# Altium schematic symbol library MyLibrary.SchLib: 320 symbols (part 7 of 7)
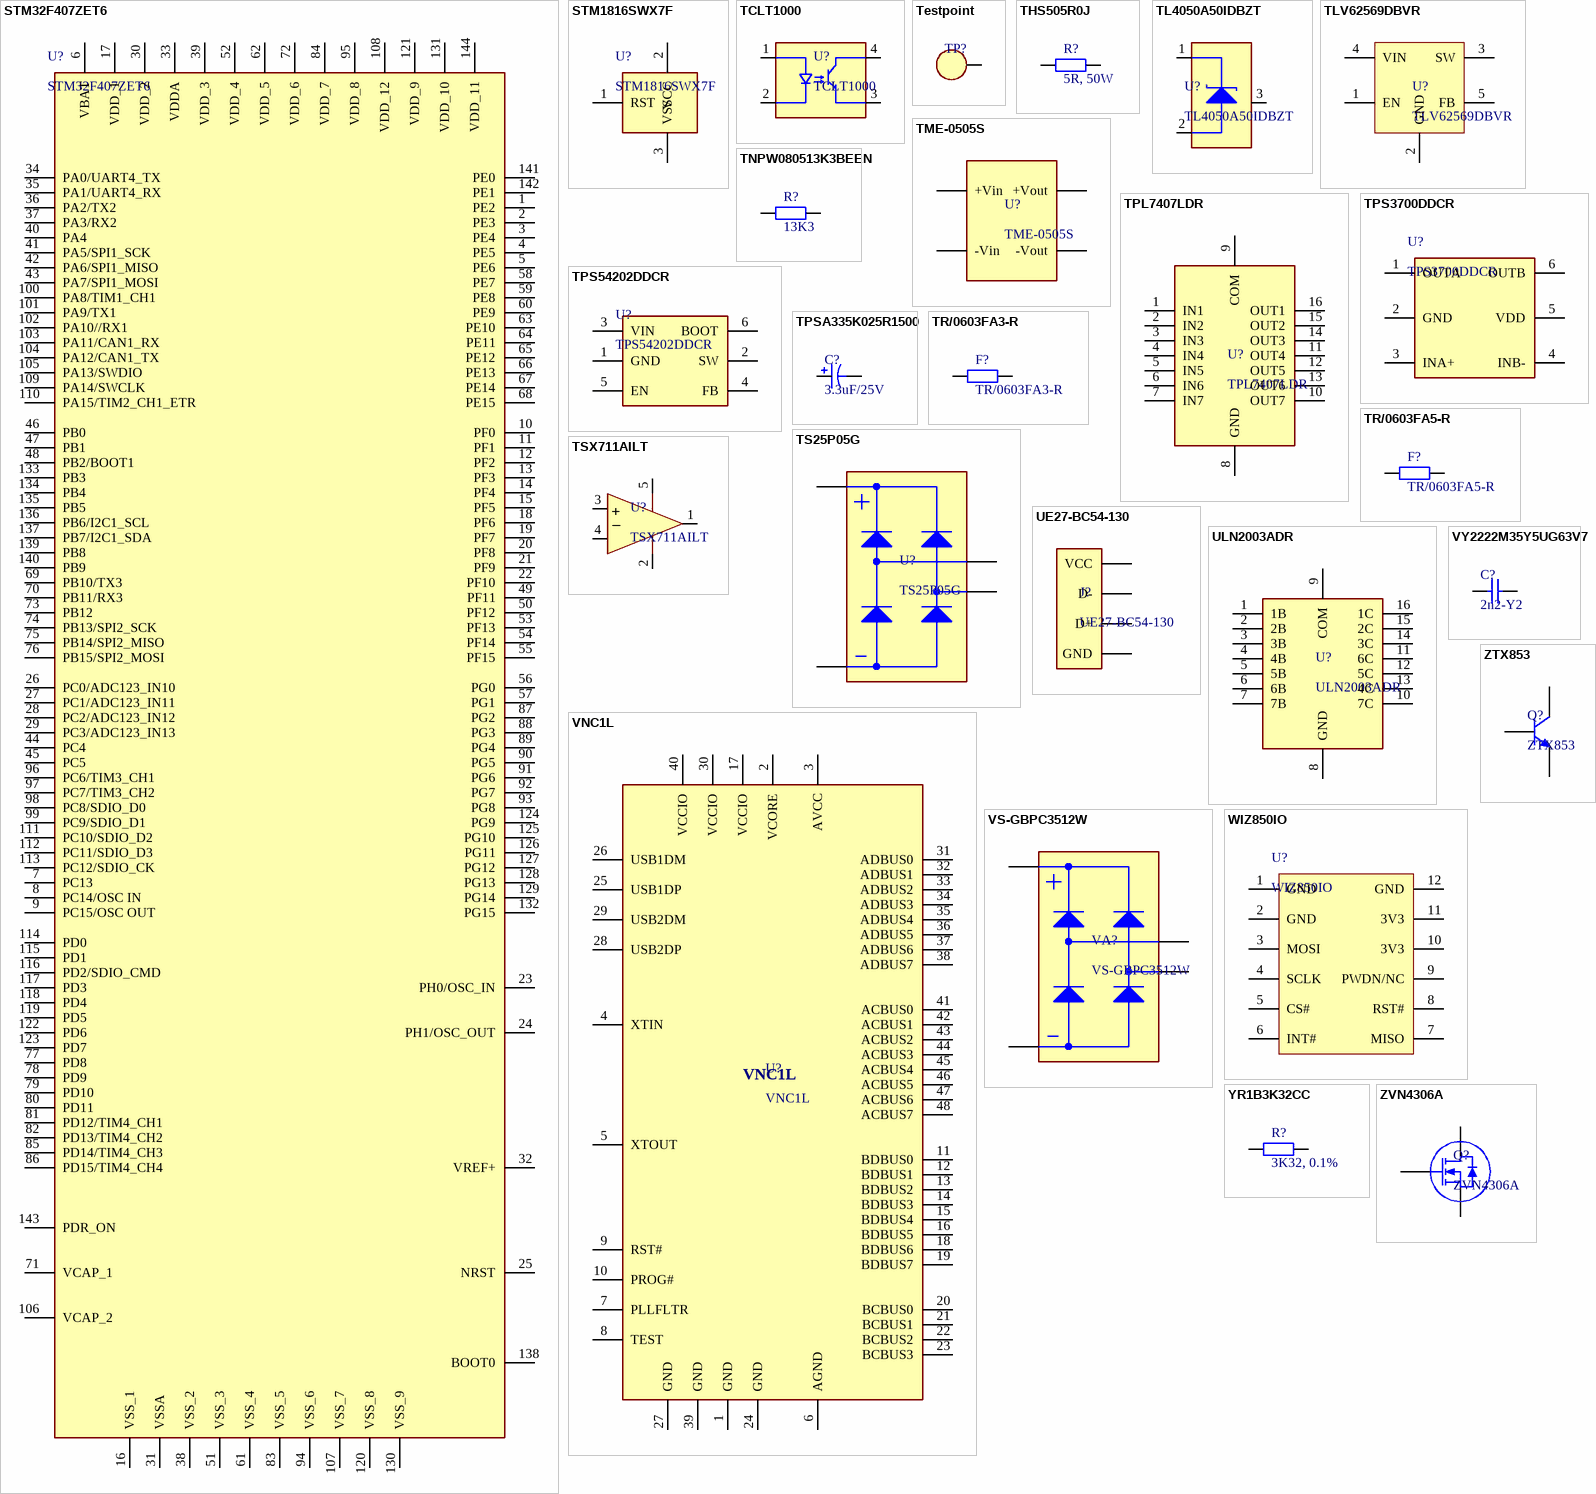
[diagram p14: symbols STM32F407ZET6 to ZVN4306A]

## STM32F407ZET6
designator U?
MCU STM32F407ZET6 ARM 32BIT LQFP144; Manufacturer: STMicroelectronics; Number of Timers/Counters: 14; Frequency: 168MHz; RAM Size: 192KB; Number of I/Os: 114; Max Supply Voltage: 3.6V; Min Supply Voltage: 1.8V; Memory Type: FLASH; Memory Size: 512KB; Interface: I2C,SPI,USB,CAN,Ethernet,I2S,IrDA,UART,USART,LIN,EBI/EMI; Data Bus Width: 32b; Oscillator Type: Internal; Number of USB Channels: 2; Number of ADC Channels: 24; Number of SPI Channels: 3; Number of Ethernet Channels: 1; Watchdog Timer: Yes; Peripherals: Brown-out Detect/Reset,POR,PWM,WDT,DMA,LCD,I2C; Supplier 1: Mouser; Manufacturer Part Number: STM32F407ZET6; Stock 1: 1155; Pricing 1: 1=11.06, 10=10.17, 50=9.75, 100=8.59, 1000=7.01, 10000=7.01 (USD); Package: QFP50P2200X2200X160-144N; Number of Pins: 144; Min Operating Temperature: -40°C; Max Operating Temperature: 85°C; Package Quantity: 60; Packaging: Tray; Max Frequency: 168MHz; Core Architecture: ARM; Number of Programmable I/O: 114; Number of I2C Channels: 3; Number of UART Channels: 2; Length: 20.2mm; Height: 1.45mm; Width: 20.2mm; Radiation Hardening: No; REACH SVHC: No SVHC; Lead Free: Lead Free; ComponentLink1URL: https://datasheet.ciiva.com/16378/dm00037051-16378957.pdf; ComponentLink1Description: Datasheet; Supplier Part Number 1: 511-STM32F407ZET6; Type: FINE-PITCH
footprint LQFP144 (TSQFP, 144-Leads, Body 19.90x19.90mm, Pitch 0.50mm, IPC Medium Density)
pins: 1 PE2, 2 PE3, 3 PE4, 4 PE5, 5 PE6, 6 VBAT, 7 PC13, 8 PC14/OSC IN, 9 PC15/OSC OUT, 10 PF0, 11 PF1, 12 PF2, 13 PF3, 14 PF4, 15 PF5, 16 VSS_1, 17 VDD_1, 18 PF6, 19 PF7, 20 PF8, 21 PF9, 22 PF10, 23 PH0/OSC_IN, 24 PH1/OSC_OUT, 25 NRST, 26 PC0/ADC123_IN10, 27 PC1/ADC123_IN11, 28 PC2/ADC123_IN12, 29 PC3/ADC123_IN13, 30 VDD_2, 31 VSSA, 32 VREF+, 33 VDDA, 34 PA0/UART4_TX, 35 PA1/UART4_RX, 36 PA2/TX2, 37 PA3/RX2, 38 VSS_2, 39 VDD_3, 40 PA4, 41 PA5/SPI1_SCK, 42 PA6/SPI1_MISO, 43 PA7/SPI1_MOSI, 44 PC4, 45 PC5, 46 PB0, 47 PB1, 48 PB2/BOOT1, 49 PF11, 50 PF12, 51 VSS_3, 52 VDD_4, 53 PF13, 54 PF14, 55 PF15, 56 PG0, 57 PG1, 58 PE7, 59 PE8, 60 PE9, 61 VSS_4, 62 VDD_5, 63 PE10, 64 PE11, 65 PE12, 66 PE13, 67 PE14, 68 PE15, 69 PB10/TX3, 70 PB11/RX3, 71 VCAP_1, 72 VDD_6, 73 PB12, 74 PB13/SPI2_SCK, 75 PB14/SPI2_MISO, 76 PB15/SPI2_MOSI, 77 PD8, 78 PD9, 79 PD10, 80 PD11, 81 PD12/TIM4_CH1, 82 PD13/TIM4_CH2, 83 VSS_5, 84 VDD_7, 85 PD14/TIM4_CH3, 86 PD15/TIM4_CH4, 87 PG2, 88 PG3, 89 PG4, 90 PG5, 91 PG6, 92 PG7, 93 PG8, 94 VSS_6, 95 VDD_8, 96 PC6/TIM3_CH1, 97 PC7/TIM3_CH2, 98 PC8/SDIO_D0, 99 PC9/SDIO_D1, 100 PA8/TIM1_CH1, 101 PA9/TX1, 102 PA10//RX1, 103 PA11/CAN1_RX, 104 PA12/CAN1_TX, 105 PA13/SWDIO, 106 VCAP_2, 107 VSS_7, 108 VDD_12, 109 PA14/SWCLK, 110 PA15/TIM2_CH1_ETR, 111 PC10/SDIO_D2, 112 PC11/SDIO_D3, 113 PC12/SDIO_CK, 114 PD0, 115 PD1, 116 PD2/SDIO_CMD, 117 PD3, 118 PD4, 119 PD5, 120 VSS_8, 121 VDD_9, 122 PD6, 123 PD7, 124 PG9, 125 PG10, 126 PG11, 127 PG12, 128 PG13, 129 PG14, 130 VSS_9, 131 VDD_10, 132 PG15, 133 PB3, 134 PB4, 135 PB5, 136 PB6/I2C1_SCL, 137 PB7/I2C1_SDA, 138 BOOT0, 139 PB8, 140 PB9, 141 PE0, 142 PE1, 143 PDR_ON, 144 VDD_11

## STM1816SWX7F
designator U?
IC MCU RESET CIRCUIT 2.88V SOT23; Manufacturer: STMicroelectronics; Max Power Dissipation: 320mW; Min Supply Voltage: 1.2V; Max Supply Voltage: 5.5V; Max Supply Current: 16uA; Watchdog Timer: No; Min Reset Threshold Voltage: 2.8V; Max Reset Threshold Voltage: 2.97V; Max Output Current: 20mA; Number of Voltages Monitored: 1; Reset: Active Low; Reset Timeout: 100ms; Operating Supply Current: 4uA; Supplier 1: Mouser; Manufacturer Part Number: STM1816SWX7F; Stock 1: 1351; Pricing 1: 1=0.66, 10=0.546, 50=0.546, 100=0.352, 1000=0.282, 10000=0.229 (USD); Mount: Surface Mount; Package: SOT95P245X110-3N; Number of Pins: 3; Min Operating Temperature: -40°C; Max Operating Temperature: 105°C; Package Quantity: 3000; Packaging: Tape and Reel; Nominal Supply Current: 16uA; Type: SMD; Threshold Voltage: 2.88V; Overvoltage Threshold: 2.97V; Undervoltage Threshold: 2.8V; Number of Elements: 1; Power Dissipation: 320mW; Termination: SMD/SMT; Length: 3.04mm; Height: 1.02mm; Width: 1.4mm; Radiation Hardening: No; REACH SVHC: No SVHC; Lead Free: Lead Free; ComponentLink1URL: https://datasheet.ciiva.com/27052/1405034-27052192.pdf; ComponentLink1Description: Datasheet; Supplier Part Number 1: 511-STM1816SWX7F
footprint SOT23_123 (SOT23, 3-Leads, Body 2,92x2,51mm, Pitch 0,95mm, IPC Medium Density)
pins: 1 RST, 2 VCC, 3 VSS

## TCLT1000
designator U?
OPTOISOLATOR 5KV SOP4; Manufacturer: Vishay Semiconductor Opto Division; Number of Channels: 1; Voltage - Isolation: 5000Vrms; Current Transfer Ratio (Min): 50% @ 5mA; Current Transfer Ratio (Max): 600% @ 5mA; Turn On / Turn Off Time (Typ): 6µs, 5µs; Rise / Fall Time (Typ): 3µs, 4.7µs; Input Type: DC; Output Type: Transistor; Voltage - Output (Max): 70V; Current - Output / Channel: 50mA; Voltage - Forward (Vf) (Typ): 1.25V; Current - DC Forward (If) (Max): 60mA; Vce Saturation (Max): 300mV; Resistance (Ohms): 5k; Tolerance: ±1%; Power (Watts): 25W; Temperature Coefficient: -20/ +80ppm/°C; Manufacturer Part Number: TCLT1000; RoHS: RoHS Compliant; Category: Isolators; Packaging: Tape & Reel (TR); Part Status: Active; Operating Temperature: -55°C ~ 100°C; Mounting Type: Surface Mount; Package: SOP2541020X230-4N; Supplier Device Package: 4-SOP (2.54mm); ComponentLink1URL: http://www.vishay.com/docs/83515/tclt1000.pdf; ComponentLink1Description: Datasheet; Composition: Thick Film; Features: Moisture Resistant, Non-Inductive; Size / Dimension: 0.410" L x 0.125" W (10.41mm x 3.18mm); Height - Seated (Max): 0.650" (16.52mm); Failure Rate: -; Type: SMD; Supplier 1: RSComponents; Supplier Part Number 1: 6998284P
footprint SOP4L
pins: 1 A1, 2 C1, 3 E, 4 C

## Testpoint
designator TP?, comment -  (value not drawn)  (no BOM)
Testpoint 0.8mm X 1.5mm; .PCBChecked: BP; .SCHChecked: BP
footprint TESTPOINT_0.8X1.5
pins: 1

## THS505R0J
designator R?, comment 5R, 50W
RES 5R 50W; Manufacturer: TE Connectivity; Manufacturer Part Number: THS505R0J; Tolerance: 5%; Voltage Rating: 1.25kV; Temperature Coefficient: 50ppm/°C; Lead/Base Style: Fixed; Insulation Resistance: 10GR; Number of Resistors: 1; Lead Length: 10mm; Supplier 1: Digi-Key; Stock 1: 0; Mount: Chassis Mount; Min Operating Temperature: -55°C; Max Operating Temperature: 275°C; Power Rating: 50W; Resistance: 5R; Composition: Power resistor,Wirewound; Packaging: Tray; Package Quantity: 100; Termination: Solder; Number of Terminations: 2; Length: 51mm; Height: 17mm; Width: 30mm; REACH SVHC: Unknown; ELV: Compliant; ComponentLink2URL: http://datasheet.octopart.com/THS505R0J-TE-Connectivity-datasheet-5323629.pdf; ComponentLink2Description: Datasheet; ComponentLink3URL: http://sigma.octopart.com/13533197/technical_drawing/TE-Connectivity-THS505R0J.pdf; ComponentLink3Description: Drawing; Type: THT; Supplier Part Number 1: THS505R0J-ND
footprint THS505R
pins: 1, 2

## TL4050A50IDBZT
designator U?
REF 5V SMD SOT233; Manufacturer: Texas Instruments; Tolerance: 0.1%; Number of Channels: 1; Max Output Current: 15mA; Temperature Coefficient: 30ppm/°C; Cathode Current: 80uA; Reference Type: Shunt; Supplier 1: Digi-Key; Manufacturer Part Number: TL4050A50IDBZT; Stock 1: 532; Pricing 1: 1=2.5, 10=2.246, 100=1.8056 (USD); Mount: Surface Mount; Case/Package: SOT-23; Number of Pins: 3; Min Operating Temperature: -40°C; Max Operating Temperature: 125°C; Packaging: Tape and Reel; Package Quantity: 1; Output Voltage: 5V; Output Current: 15mA; Min Output Voltage: 5V; Reference Voltage: 5V; Max Output Voltage: 5V; Termination: SMD/SMT; Radiation Hardening: No; Lead Free: Lead Free; REACH SVHC: No SVHC; ComponentLink1URL: https://datasheet.ciiva.com/15148/getdatasheetpartid-127314-15148679.pdf; ComponentLink1Description: Datasheet; Supplier Part Number 1: 296-32346-1-ND; Package: SOT95P245X110-3N; Type: SMD
footprint SOT23_123 (SOT23, 3-Leads, Body 2,92x2,51mm, Pitch 0,95mm, IPC Medium Density)
pins: 1, 2, 3

## TLV62569DBVR
designator U?
IC REG BUCK ADJ 2A SOT23-5; Manufacturer: Texas Instruments; Supplier 1: Mouser; Manufacturer Part Number: TLV62569DBVR; Stock 1: 3906; Pricing 1: 1=1.27000, 10=1.08000, 50=1.08000, 100=0.83300, 500=0.73600, 1000=0.58100, 3000=0.51500, 9000=0.49600, 10000=0.49600, 24000=0.48000, 45000=0.46500 (USD); RoHS: No; Case/Package: SOT-23-5; Min Operating Temperature: -40°C; Max Operating Temperature: 125°C; ComponentLink1URL: http://www.ti.com/lit/ds/symlink/tlv62569.pdf?src-supplier=Farnell; ComponentLink1Description: Datasheet; Supplier Part Number 1: 595-TLV62569DBVR; Type: SMD; Package: SOT95P245X110-5N
footprint SOT23-5 (SOT23, 5-Leads, Body 2.90x2.80mm, Pitch 0.95mm, IPC Medium Density)
pins: 1 EN, 2 GND, 3 SW, 4 VIN, 5 FB

## TME-0505S
designator U?
DC/DC 5V 5V SIP4 1W; Manufacturer: Traco Power; Number of Outputs: 1; Max Output Current: 200mA; Efficiency: 70%; Min Input Voltage: 4.5V; Max Input Voltage: 5.5V; Isolation Voltage: 1kV; Isolation: Isolated; Supplier 1: Distrelec; Manufacturer Part Number: TME-0505S; Stock 1: 1014; Pricing 1: 1=3.68, 10=3.54, 25=3.4 (EUR); Mount: Through Hole; Case/Package: SIP; Number of Pins: 4; Weight: 1.3g; Min Operating Temperature: -40°C; Max Operating Temperature: 85°C; Nominal Output Voltage: 5V; Output Current: 200mA; Output Voltage: 5V; Power Rating: 1W; Operating Supply Voltage: 5V; Nominal Input Voltage: 5V; Output Power: 1W; Min Input Voltage (DC): 4.5V; Max Input Voltage (DC): 5.5V; Max Output Power: 1W; Voltage - Output 1: 5V; Current - Output 1: 200mA; Length: 11.5mm; Height: 10.2mm; Width: 6.1mm; Depth: 6mm; Radiation Hardening: No; REACH SVHC: No SVHC; Flammability Rating: UL94 V-0; ComponentLink1URL: https://datasheet.ciiva.com/11837/0900766b80e182ef-11837284.pdf; ComponentLink1Description: Datasheet; Supplier Part Number 1: 169-56-007; Package: SIP4; Type: THT
footprint SIP4
pins: +Vin, +Vout, -Vin, -Vout

## TNPW080513K3BEEN
designator R?, comment 13K3
RES 13K3 0805 0.125W 0.1%; Manufacturer: Vishay Dale; Manufacturer Part Number: TNPW080513K3BEEN; Resistance: 13.3kR; Power Rating: 125mW; Voltage Rating: 150V; Temperature Coefficient: 25ppm/°C; Voltage Rating (DC): 100V; Supplier 1: Mouser; RoHS: Yes; Stock 1: 757; Pricing 1: 1 = 0.94000, 10 = 0.94000, 50 = 0.75800, 100 = 0.59800, 1000 = 0.38400, 10000 = 0.38400 (USD); Mount: Surface Mount; Case/Package: 0805; Case Code (Metric): 2012; Case Code (Imperial): 0805; Contact Plating: Tin; Min Operating Temperature: -55°C; Max Operating Temperature: 125°C; Tolerance: 0.1%; Packaging: Tape and Reel; Package Quantity: 1000; Composition: Thin Film; Number of Terminations: 2; Termination: SMD/SMT; Military Standard: Not; Max Power Dissipation: 125mW; Features: Moisture Resistant; Length: 2mm; Height: 0.022inch; Width: 0.049inch; Depth: 1.25mm; Radiation Hardening: No; ComponentLink1URL: https://datasheet.ciiva.com/48526/tnpw-e3-48526534.pdf?src-supplier=Avnet; ComponentLink1Description: Datasheet; Supplier Part Number 1: 71-TNPW080513K3BEEN; Type: SMD; Package: RESC2012X60N
footprint R0805
footprint RESC2012X05N (Chip Resistor, 2-Leads, Body 2.05x1.25mm, IPC Medium Density)
pins: 1, 2

## TPL7407LDR
designator U?
IC POWER RELAY N-CHAN 16SOIC; Manufacturer: Texas Instruments; Switch Type: Relay, Solenoid Driver; Number of Outputs: 7; Ratio - Input:Output: 1:1; Output Configuration: Low Side; Output Type: N-Channel; Interface: Parallel; Voltage - Load: 40V (Max); Voltage - Supply (Vcc/Vdd): 1.8 V ~ 5.5 V; Current - Output (Max): 500mA; Input Type: Inverting; Manufacturer Part Number: TPL7407LDR; RoHS: RoHS Compliant; Category: Integrated Circuits (ICs); Packaging: Cut Tape (CT); Part Status: Active; Rds On (Typ): -; Features: -; Fault Protection: -; Operating Temperature: -40°C ~ 125°C (TA); Package: SOIC127P600X175-16N; Supplier Device Package: 16-SOIC; ComponentLink1URL: http://www.ti.com/lit/ds/symlink/tpl7407l.pdf; ComponentLink1Description: Datasheet; Supplier 1: Farnell; Supplier Part Number 1: 2400932; Type: SMD
footprint SOIC16 (SOIC16, 5.40mm width)
pins: 1 IN1, 2 IN2, 3 IN3, 4 IN4, 5 IN5, 6 IN6, 7 IN7, 8 GND, 9 COM, 10 OUT7 (oc), 11 OUT4 (oc), 12 OUT5 (oc), 13 OUT6 (oc), 14 OUT3 (oc), 15 OUT2 (oc), 16 OUT1 (oc)

## TPS3700DDCR
designator U?
IC COMPARATOR Dual 18V 6-Pin TSOT-23 T/R; Manufacturer: Texas Instruments; Min Supply Voltage: 1.8V; Number of Elements: 2; Quiescent Current: 11uA; Propagation Delay: 29us; Hysteresis: 5.5mV; Number of Channels: 1; Nominal Supply Current: 7uA; Undervoltage Threshold: 1.7V; Operating Supply Current: 5.5uA; Watchdog Timer: No; Supplier 1: Mouser; Manufacturer Part Number: TPS3700DDCR; RoHS: Yes; Stock 1: 20421; Pricing 1: 1 = 1.79000, 10 = 1.52000, 50 = 1.52000, 100 = 1.22000, 1000 = 0.88100, 10000 = 0.75900 (USD); Mount: Surface Mount; Case/Package: SOT; Number of Pins: 6; Min Operating Temperature: -40°C; Max Operating Temperature: 125°C; Packaging: Tape and Reel; Max Supply Voltage: 18V; Package Quantity: 3000; Number of Voltages Monitored: 2; Radiation Hardening: No; Lead Free: Lead Free; REACH SVHC: No SVHC; ComponentLink1URL: https://datasheet.ciiva.com/15106/getdatasheetpartid-496993-15106246.pdf?src-supplier=Verical; ComponentLink1Description: Datasheet; Supplier Part Number 1: 595-TPS3700DDCR; Package: SOT95P245X110-6N; Type: SMD
footprint SOT23-6 (SOT23, 6-Leads, Body 2.90x2.80mm, Pitch 0.95mm, IPC Medium Density)
pins: 1 OUTA, 2 GND, 3 INA+, 4 INB-, 5 VDD, 6 OUTB

## TPS54202DDCR
designator U?
IC REG BUCK ADJ 2A SYNC SOT23-6; Manufacturer: Texas Instruments; Number of Outputs: 1; Min Input Voltage: 4.5V; Max Input Voltage: 28V; Min Output Voltage: 596mV; Switching Frequency: 500kHz; Synchronous Rectifier: Yes; Quiescent Current: 40uA; Output Type: Adjustable; Output Configuration: Positive; Supplier 1: Mouser; Manufacturer Part Number: TPS54202DDCR; RoHS: Yes; Stock 1: 34946; Pricing 1: 1 = 1.68000, 10 = 1.43000, 50 = 1.43000, 100 = 1.15000, 1000 = 0.83000, 10000 = 0.71500 (USD); Mount: Surface Mount; Case/Package: SOT-23-6; Min Operating Temperature: -40°C; Max Operating Temperature: 125°C; Packaging: Tape and Reel; Max Output Voltage: 28V; Output Current: 2A; Lead Free: Lead Free; ComponentLink1URL: http://www.ti.com/lit/ds/symlink/tps54202.pdf?src-supplier=Digi-Key; ComponentLink1Description: Datasheet; Supplier Part Number 1: 595-TPS54202DDCR; Type: SMD; Package: SOT95P245X110-6N
footprint SOT23-6 (SOT23, 6-Leads, Body 2.90x2.80mm, Pitch 0.95mm, IPC Medium Density)
pins: 1 GND, 2 SW, 3 VIN, 4 FB, 5 EN, 6 BOOT

## TPSA335K025R1500
designator C?, comment 3.3uF/25V
CAP 3.3uF 25V SMD 1206 (3216) 1.5 Ohm 125C T/R; Manufacturer: Kyocera AVX; Manufacturer Part Number: TPSA335K025R1500; Dielectric Material: Tantalum; Tolerance: 10%; ESR (Equivalent Series Resistance): 1.5R; Polarity: Polar; Leakage Current: 800nA; Dissipation Factor: 6%; Supplier 1: Farnell; Stock 1: 55152; Pricing 1: 5=0.61, 50=0.309, 250=0.284, 500=0.244, 1000=0.21, 2000=0.172, 10000=0.163, 20000=0.161 (EUR); Mount: Surface Mount; Case/Package: 1206; Number of Pins: 2; Case Code (Metric): 3216; Case Code (Imperial): 1206; Min Operating Temperature: -55°C; Max Operating Temperature: 125°C; Capacitance: 3.3uF; Voltage Rating: 25V; Packaging: Tape and Reel; Package Quantity: 2000; Termination: SMD/SMT; Voltage: 25V; Voltage Rating (DC): 25V; Length: 3.2mm; Height: 1.6mm; Width: 0.063inch; Height - Seated (Max): 0.071inch; Depth: 1.6mm; Radiation Hardening: No; REACH SVHC: No SVHC; Lead Free: Lead Free; ComponentLink1URL: https://datasheet.ciiva.com/11794/0900766b80df8ba2-11794153.pdf; ComponentLink1Description: Datasheet; Supplier Part Number 1: 1658494; Type: SMD; Package: CAPC3216X100N
footprint C1206_POL
pins: 1, 2

## TR/0603FA3-R
designator F?
FUSE 32V 3A FAST ACTING SMD; Manufacturer: Eaton Bussmann; Resistance: 28mR; Fuse Type: Board Mount (Cartridge Style Excluded); Supplier 1: Mouser; Manufacturer Part Number: TR/0603FA3-R; RoHS: Yes; Stock 1: 2056; Pricing 1: 1 = 0.87000, 10 = 0.68400, 50 = 0.68400, 100 = 0.56800, 250 = 0.51700, 500 = 0.43800, 1000 = 0.36900, 2500 = 0.34400, 5000 = 0.33200, 10000 = 0.32000 (USD); Mount: Surface Mount; Case/Package: SMD/SMT; Number of Pins: 2; Weight: 0.016oz; Housing Material: Ceramic; Current Rating: 3A; Voltage Rating (AC): 32V; Voltage Rating (DC): 32V; Packaging: Tape and Reel; Package Quantity: 5000; Max Voltage Rating (AC): 32V; Max Voltage Rating (DC): 32V; Working Voltage: 32V; Length: 1.6mm; Height: 0.48mm; Width: 0.81mm; Depth: 0.81mm; Radiation Hardening: No; Lead Free: Lead Free; ComponentLink2URL: http://www.mouser.com/ds/2/87/Bus_Elx_DS_4336_0603FA_Series-335921.pdf?src-supplier=Mouser; ComponentLink2Description: Datasheet; Supplier Part Number 1: 504-TR/0603FA3-R; Type: SMD; Package: FUSE1608X45N
footprint FUSE0603
pins: 1, 2

## TR/0603FA5-R
designator F?
FUSE 32V 5A FAST ACTING; Manufacturer: Eaton Bussmann; Body Material: Metal; Resistance: 11mR; Fuse Type: Board Mount (Cartridge Style Excluded); Approvals: UL; Type: SMD; Supplier 1: Mouser; Manufacturer Part Number: TR/0603FA5-R; RoHS: Yes; Stock 1: 8504; Pricing 1: 1 = 0.69000, 10 = 0.56900, 50 = 0.56900, 100 = 0.47200, 250 = 0.42900, 500 = 0.36500, 1000 = 0.32200, 2500 = 0.29600, 10000 = 0.29600 (USD); Mount: Surface Mount; Case/Package: 0603; Number of Pins: 2; Weight: 0.016oz; Case Code (Metric): 1608; Case Code (Imperial): 0603; Housing Material: Ceramic; Min Operating Temperature: -55°C; Max Operating Temperature: 125°C; Current Rating: 5A; Voltage Rating (AC): 32V; Voltage Rating (DC): 32V; Packaging: Tape and Reel; Package Quantity: 1; Max Voltage Rating (AC): 32V; Max Voltage Rating (DC): 32V; DC Cold Resistance: 11mR; Fuse Current: 5A; Length: 1.6mm; Height: 0.019inch; Width: 0.032inch; Depth: 0.81mm; Radiation Hardening: No; REACH SVHC: No SVHC; Lead Free: Lead Free; ComponentLink1URL: https://datasheet.ciiva.com/48480/bus-elx-ds-4336-0603fa-series-48480821.pdf?src-supplier=Avnet; ComponentLink1Description: Datasheet; Supplier Part Number 1: 504-TR/0603FA5-R; Package: FUSE1608X45N
footprint FUSE0603
pins: 1, 2

## TS25P05G
designator U?
BRIDGE RECTIFIER 600V 25A SIL; Manufacturer: Taiwan Semiconductor; Max Surge Current: 300A; Max Reverse Leakage Current: 10uA; Supplier 1: Mouser; Manufacturer Part Number: TS25P05G; Stock 1: 0; RoHS: Yes; Case/Package: SIL; Number of Pins: 4; Min Operating Temperature: -55°C; Max Operating Temperature: 150°C; Packaging: Rail/Tube; Package Quantity: 1200; Length: 30.3mm; Height: 20.3mm; Width: 4.8mm; ComponentLink1URL: https://datasheet.ciiva.com/14152/ts25p01g-7g-eng-tds-14152307.pdf?src-supplier=Distrelec; ComponentLink1Description: Datasheet; Supplier Part Number 1: 821-TS25P05G; Type: THT
footprint SIL4
pins: 1 V-, 2 AC1, 3 AC2, 4 V+

## TSX711AILT
designator U?
INA; Manufacturer: STMicroelectronics; Amplifier Type: General Purpose; Number of Circuits: 1; Output Type: Rail-to-Rail; Slew Rate: 1.4 V/µs; Gain Bandwidth Product: 2.7MHz; Current - Input Bias: 1pA; Voltage - Input Offset: 200µV; Current - Supply: 660µA; Current - Output / Channel: 71mA; Voltage - Supply, Single/Dual (±): 2.7 V ~ 16 V; Supplier 1: Mouser; Manufacturer Part Number: TSX711AILT; Stock 1: 0; Pricing 1: 3000=0.602 (USD); Category: Integrated Circuits (ICs); Family: Linear - Amplifiers - Instrumentation, OP Amps, Buffer Amps; Series: -; Packaging: Tape & Reel (TR); -3db Bandwidth: -; Operating Temperature: -40°C ~ 125°C; Mounting Type: Surface Mount; Package: STO95P300X130N; Supplier Device Package: SOT-23-5; ComponentLink1URL: http://www.farnell.com/datasheets/1905401.pdf; ComponentLink1Description: Datasheet; Supplier Part Number 1: 511-TSX711AILT; Type: SMD
footprint SOT23-5 (SOT23, 5-Leads, Body 2.90x2.80mm, Pitch 0.95mm, IPC Medium Density)
pins: 1 REF, 2, 3 +IN, 4 -VCC, 5 SENSE
text: +; _

## UE27-BC54-130
designator J?
USB Connectors 4P PCB R/A TYPE B BLACK W/ REAR SHIELD; Manufacturer: Amphenol Commercial; Gender: Receptacle; Number of Contacts: 4; Number of Ports: 1; Insulation Resistance: 1GR; Pitch: 2.5mm; Supplier 1: Mouser; Manufacturer Part Number: UE27-BC54-130; RoHS: Yes; Stock 1: 2902; Pricing 1: 1 = 0.63000, 10 = 0.59400, 50 = 0.47600, 100 = 0.45600, 1000 = 0.32700, 10000 = 0.29700 (USD); Mount: Horizontal,Through Hole; Color: Black; Contact Material: Bronze; Contact Plating: Gold; Number of Terminals: 4; Housing Material: Polybutylene; Packaging: Bulk; Package Quantity: 3000; Connector Type: USB; Termination: Solder; Orientation: Right Angle; Length: 12.04mm; Depth: 16.3mm; Radiation Hardening: No; ComponentLink1URL: https://www.amphenolcanada.com/ProductSearch/drawings/AC/UE27BCX4XXX.pdf; ComponentLink1Description: Datasheet; Supplier Part Number 1: 523-UE27-BC54-130; Type: THT
footprint USB Receptacle
pins: 1 VCC, 2 D-, 3 D+, 4 GND

## ULN2003ADR
designator U?
IC PWR RELAY 7NPN 1:1 16SOIC; Manufacturer: Texas Instruments; Switch Type: Relay, Solenoid Driver; Number of Outputs: 7; Output Configuration: Low Side; Output Type: NPN; Interface: Parallel; Voltage - Load: 50V (Max); Voltage - Supply (Vcc/Vdd): Not Required; Current - Output (Max): 500mA; Input Type: Inverting; Supplier 1: Digi-Key; Manufacturer Part Number: ULN2003ADR; RoHS: RoHS Compliant; Category: Integrated Circuits (ICs); Stock 1: 30000; Pricing 1: 2500=0.1581, 5000=0.1479, 12500=0.1377 (USD); Packaging: Tape & Reel (TR); Part Status: Active; Ratio - Input:Output: 1:1; Rds On (Typ): -; Features: -; Fault Protection: -; Operating Temperature: -20°C ~ 70°C (TA); Package: SOIC127P600X175-16N; Supplier Device Package: 16-SOIC; ComponentLink1URL: http://www.ti.com/lit/ds/symlink/uln2003a.pdf; ComponentLink1Description: Datasheet; Supplier Part Number 1: 296-1368-2-ND; Type: SMD
footprint SOIC16 (SOIC16, 5.40mm width)
pins: 1 1B, 2 2B, 3 3B, 4 4B, 5 5B, 6 6B, 7 7B, 8 GND, 9 COM, 10 7C, 11 6C, 12 5C, 13 4C, 14 3C, 15 2C, 16 1C

## VNC1L
designator U?
IC FTDI EMBEDDED USB HOST CONTROLLER, 48LQFP; USB Type: Embedded Host Controller; USB Standard: USB 2.0; Supply Voltage Min: 3; Supply Voltage Max: 3.6; Interface Case Style: LQFP; No. of Pins: 48; Data Rate: 480; No. of Ports: 2 Port; SVHC: No SVHC (12-Jan-2017); Base Number: 1; Data Rate Max: 12; Device Marking: VNC1; Supply Voltage Range: 3V to 3.6; .PCBChecked: BP; Supplier 1: Farnell; Manufacturer: FTDI; Manufacturer Part Number: VNC1L; RoHS: YES; Pricing 1: 1=8.75, 25=7.83, 100=6.69, 500=5.58 (GBP); Operating Temperature Min: 0; Operating Temperature Max: 70; Packaging: Cut Tape; Product Range: -; MSL: -; Operating Temperature Range: 0°C to +70; Termination Type: Surface Mount Device<!--FANDB--><div class="features-and-benefits-container"><div class="features-and-benefits-description"><span class="features-benefits-value">The VNC1L is a first generation Vinculum family USB Host/Slave Controller IC, designed to deliver USB host level interfacing capabilities to embedded applications. The IC features two independent USB host/slave ports with an inbuilt 8/32-bit MCU processing core with 4kb RAM program memory and 64kb embedded flash memory for firmware storage. The IC supports UART, SPI slave and 8-bit parallel FIFO interfaces to enable communication with external processing devices. Further two USB ports on IC can be individually configured by firmware as host or slave ports. IC can be programmed with FTDI's in-house developed firmware which supports a range of common USB device classes, providing a cost effective, complete, ready-to-use USB interfacing solution. Users do not need to license any USB software stacks or develop USB drivers, indeed no knowledge of USB is required to use these devices. IC is ideal for implementing USB interfacing within existing applications which do not already have USB.</span></div><div class="features-and-benefits-list"><ul class="features-and-benefits-list-list"><li class="features-and-benefits-list-item">8/32-bit V-MCU core</li><li class="features-and-benefits-list-item">Dual DMA controllers for hardware acceleration</li><li class="features-and-benefits-list-item">64kb embedded flash program memory</li><li class="features-and-benefits-list-item">4kb internal data SRAM</li><li class="features-and-benefits-list-item">2 x USB 2.0 slow/full speed host/slave ports</li><li class="features-and-benefits-list-item">UART, SPI and parallel FIFO interfaces</li><li class="features-and-benefits-list-item">PS2 legacy keyboard and mouse interfaces</li><li class="features-and-benefits-list-item">Up to 28 GPIO pins depending on configuration</li><li class="features-and-benefits-list-item">3.3V operation with 5V safe inputs</li><li class="features-and-benefits-list-item">Low power operation (25mA running/2mA standby)</li><li class="features-and-benefits-list-item">Multi-processor configuration capable</li></ul></div><div class="features-and-benefits-footnotes"><span class="features-and-benefits-value">VNC1; ComponentLink1URL: http://www.farnell.com/datasheets/1508617.pdf; ComponentLink1Description: Datasheet; Supplier Part Number 1: 1329312RL; Category: Integrated Circuits (ICs); Package: QFP50P900X900X160-48N; Type: FINE-PITCH; .SCHChecked: BP
footprint LQFP48 (LQFP, 48-Leads, Body 7,00x7,00mm, Pitch 0,50mm, IPC Medium Density)
pins: 1 GND, 2 VCORE, 3 AVCC, 4 XTIN, 5 XTOUT, 6 AGND, 7 PLLFLTR, 8 TEST, 9 RST#, 10 PROG#, 11 BDBUS0, 12 BDBUS1, 13 BDBUS2, 14 BDBUS3, 15 BDBUS4, 16 BDBUS5, 17 VCCIO, 18 BDBUS6, 19 BDBUS7, 20 BCBUS0, 21 BCBUS1, 22 BCBUS2, 23 BCBUS3, 24 GND, 25 USB1DP, 26 USB1DM, 27 GND, 28 USB2DP, 29 USB2DM, 30 VCCIO, 31 ADBUS0, 32 ADBUS1, 33 ADBUS2, 34 ADBUS3, 35 ADBUS4, 36 ADBUS5, 37 ADBUS6, 38 ADBUS7, 39 GND, 40 VCCIO, 41 ACBUS0, 42 ACBUS1, 43 ACBUS2, 44 ACBUS3, 45 ACBUS4, 46 ACBUS5, 47 ACBUS6, 48 ACBUS7

## VS-GBPC3512W
designator VA?
BRIDGE RECTIFIER DIODE 1.2kV 35A 4 Pins; Manufacturer: Vishay I.R.; No. of Phases: Single; Forward Voltage VF Max: 1.1V; No. of Pins: 4Pins; SVHC: To Be Advised; Supplier 1: Digi-Key; Manufacturer Part Number: VS-GBPC3512W; Stock 1: 1278; Pricing 1: 1=6.53, 10=5.902, 25=5.6272, 100=4.8861, 250=4.6665, 500=4.2548, 1000=3.7058, 2500=3.66 (USD); Repetitive Reverse Voltage Vrrm Max: 1.2kV; Forward Current If(AV): 35A; Package: Module; Operating Temperature Max: 150°C; Packaging: Each; Product Range: -; ComponentLink1URL: https://datasheet.ciiva.com/14845/vs-gbpc25-14845420.pdf; ComponentLink1Description: Datasheet; Supplier Part Number 1: GBPC3512W-ND; Type: THT
footprint GBPC3512W
pins: AC1, AC2, V+, V-

## VY2222M35Y5UG63V7
designator C?, comment 2n2-Y2
CAP 2.2NF 300V RAD; Manufacturer: VISHAY; Manufacturer Part Number: VY2222M35Y5UG63V7; Capacitance: 2200; Product Range: VY2 Series; Capacitance Tolerance: ± 20%; Suppression Class: X1 / Y2; Voltage Rating X: 440; Voltage Rating Y: 300; Body Diameter: 9; Capacitor Application: Safety / Suppression; Capacitor Terminals: Radial Leaded; Dielectric Characteristic: Y5; External Depth: 5; External Length / Height: 43; Lead Diameter: 0.6; Lead Length: 30; Type: THT; Supplier 1: Mouser; RoHS: YES; Stock 1: 7910; Pricing 1: 10=0.277, 100=0.192, 500=0.139, 2500=0.103, 5000=0.102, 10000=0.101, 50000=0.0999, 100000=0.0988 (GBP); Packaging: Each; Operating Temperature Min: -40; Operating Temperature Max: 125; Capacitance Tolerance ±: ± 20%; External Width: 9; Lead Spacing: 7.5; Operating Temperature Range: -40°C to +125; Voltage Rating: 300; ComponentLink1URL: http://www.farnell.com/datasheets/2050153.pdf; ComponentLink1Description: Datasheet; Supplier Part Number 1: 72-VY2222M35Y5UG63V7; Package: Axial
footprint KONDENZ-5,08  12X4 D 1
pins: 1, 2 20

## WIZ850IO
designator U?
Ethernet Interface SPI 3V3; Manufacturer: WIZnet; Supplier 1: Mouser; Manufacturer Part Number: WIZ850IO; Stock 1: 62; Pricing 1: 1=21.98000, 10=20.33000, 50=18.13000, 100=17.37000, 1000=15.17000, 10000=15.17000 (USD); RoHS: No; Supplier Part Number 1: 950-WIZ850IO; Type: THT; ComponentLink1Description: Datasheet; ComponentLink1URL: https://cdn.sos.sk/productdata/43/24/8adad58a/wiz850io.pdf
footprint ETHERNET_MODULE
pins: 1 GND, 2 GND, 3 MOSI, 4 SCLK, 5 CS#, 6 INT#, 7 MISO, 8 RST#, 9 PWDN/NC, 10 3V3, 11 3V3, 12 GND

## YR1B3K32CC
designator R?, comment 3K32, 0.1%
RES 3K32 0.25W 0.1% AXIAL; Manufacturer: TE Connectivity; Manufacturer Part Number: YR1B3K32CC; Power Rating: 250mW; Voltage Rating: 250V; Resistance: 3.32kR; Temperature Coefficient: 15ppm/°C; Voltage Rating (DC): 500V; Number of Resistors: 1; Lead Diameter: 0.6mm; Lead Length: 25mm; Supplier 1: Farnell; Stock 1: 1948; Pricing 1: 1=0.604, 50=0.323, 100=0.274, 250=0.238, 500=0.189, 1000=0.174, 5000=0.162 (EUR); Mount: Axial; Min Operating Temperature: -65°C; Max Operating Temperature: 155°C; Packaging: Tape and Reel; Package Quantity: 1000; Termination: Axial; Tolerance: 0.1%; Composition: Thin Film; Number of Terminations: 2; Diameter: 2.3mm; Length: 6.3mm; REACH SVHC: No SVHC; ELV: Compliant; ComponentLink1URL: https://datasheet.ciiva.com/11822/0900766b810706c2-11822716.pdf; ComponentLink1Description: Datasheet; Supplier Part Number 1: 1083309; Package: Axial; Type: THT
footprint RESAD1020W60L680D127B
pins: 1, 2

## ZTX853
designator Q?
NPN 100V 4A E-LINE; Manufacturer: Diodes Zetex; Max Power Dissipation: 1.2W; hFE Min: 100; Frequency: 130MHz; Number of Elements: 1; Collector Base Voltage (VCBO): 200V; Emitter Base Voltage (VEBO): 6V; Collector Emitter Saturation Voltage: 160mV; Element Configuration: Single; Supplier 1: Farnell; Manufacturer Part Number: ZTX853; Stock 1: 0; Mount: Through Hole; Case/Package: TO-92; Number of Pins: 3; Weight: 0.016oz; Min Operating Temperature: -55°C; Max Operating Temperature: 200°C; Package Quantity: 4000; Packaging: Bulk; Collector Emitter Voltage (VCEO): 100V; Max Collector Current: 4A; Transition Frequency: 130MHz; Polarity: NPN; Continuous Collector Current: 4A; Collector Emitter Breakdown Voltage: 100V; Power Dissipation: 1.2W; Max Frequency: 130MHz; Gain Bandwidth Product: 130MHz; Voltage Rating (DC): 100V; Current Rating: 4A; Length: 4.77mm; Height: 4.01mm; Width: 2.41mm; Radiation Hardening: No; REACH SVHC: No SVHC; Lead Free: Lead Free; ComponentLink1URL: https://www.diodes.com/assets/Datasheets/ZTX853.pdf; ComponentLink1Description: Datasheet; Supplier Part Number 1: 9524894
footprint TO-92-BCE (Inline, 1.27mm)
pins: B, C, E

## ZVN4306A
designator Q?
MOSFET N-CH 60V 1.1A 3-Pin TO-92-3 Inline; Manufacturer: Diodes Zetex; Max Power Dissipation: 850mW; Input Capacitance: 350pF; Number of Elements: 1; Rise Time: 25ns; Rds On Max: 330mR; Drain to Source Resistance: 450mR; Gate to Source Voltage (Vgs): 20V; Turn-Off Delay Time: 30ns; Turn-On Delay Time: 8ns; Threshold Voltage: 3V; Element Configuration: Single; Type: THT; Supplier 1: RSComponents; Manufacturer Part Number: ZVN4306A; Stock 1: 1050; Mount: Through Hole; Case/Package: TO-92-3; Number of Pins: 3; Weight: 0.016oz; Min Operating Temperature: -55°C; Max Operating Temperature: 150°C; Package Quantity: 4000; Packaging: Bulk; Number of Channels: 1; Drain to Source Voltage (Vdss): 60V; Continuous Drain Current (ID): 1.1A; Fall Time: 25ns; On-State Resistance: 330mR; Power Dissipation: 850mW; Voltage Rating (DC): 60V; Drain to Source Breakdown Voltage: 60V; Current Rating: 1.1A; Length: 4.77mm; Height: 4.01mm; Width: 2.41mm; REACH SVHC: No SVHC; Lead Free: Lead Free; ComponentLink1URL: http://www.diodes.com/datasheets/ZVN4306A.pdf; ComponentLink1Description: Datasheet; Supplier Part Number 1: 841-299; Package: TO-92-3
footprint TO-92-BCE (Inline, 1.27mm)
pins: B G, C D, E S